# Altium footprint library ELCAP_D13_P5.PcbLib: 1 footprints
Each footprint in its own frame and in the unit in brackets; x right, y up, seen from the top. Pads: shape width x height; smd on the part's side, far side on the other; paste and mask are expansions set on the pad; w line width, h text height; cw(c..) or ccw(c..) is an arc to the next point about the centre after c.
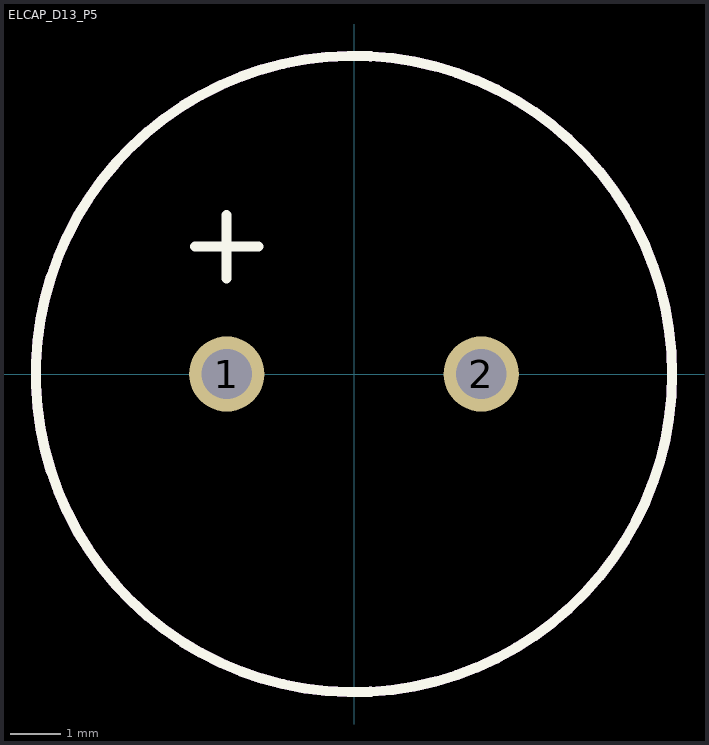
[diagram p0: the footprint, top view; thin cyan lines are the x and y axes]

## ELCAP_D13_P5 [mm]
pads (2):
  round 1.5 hole 1: 1(-2.54,0) 2(2.54,0)
Top Overlay:
  circle w0.2: c0,0 r6.35
  lines w0.2: -3.175,2.54 -1.905,2.54 ; -2.54,1.905 -2.54,3.175
TopAssy:
  circle w0.2: c0,0 r6.35
  lines w0.2: -3.175,0 -1.905,0 ; -2.54,-0.635 -2.54,0.635
3D body: height 20, standoff 0, extent -6.5,-6.5 6.5,6.5